# EAGLE library part PMS150C-S08 (library alvie)
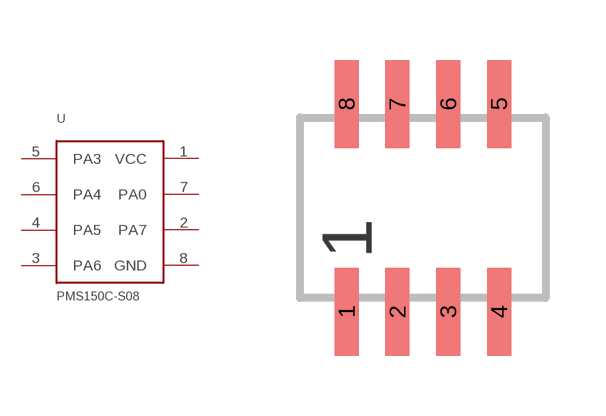
[diagram p71: symbol with the pads of SOP08; footprint SOP08]

Designator prefix -

## PMS150C-S08  [SOP08]
1  VCC  pwr
2  PA7  pas
3  PA6  pas
4  PA5  pas
5  PA3  pas
6  PA4  pas
7  PA0  pas
8  GND  pwr

## Footprint SOP08 (pad centres in mm)
smd 0.6 x 2.2: 1 -1.905,-2.6; 2 -0.635,-2.6; 3 0.635,-2.6; 4 1.905,-2.6; 5 1.905,2.6; 6 0.635,2.6; 7 -0.635,2.6; 8 -1.905,2.6